# Altium footprint library 常用元件封装.PCBLIB: 164 footprints (part 4 of 11)
Each footprint in its own frame and in the unit in brackets; x right, y up, seen from the top. Pads: shape width x height; smd on the part's side, far side on the other; paste and mask are expansions set on the pad; w line width, h text height; cw(c..) or ccw(c..) is an arc to the next point about the centre after c.
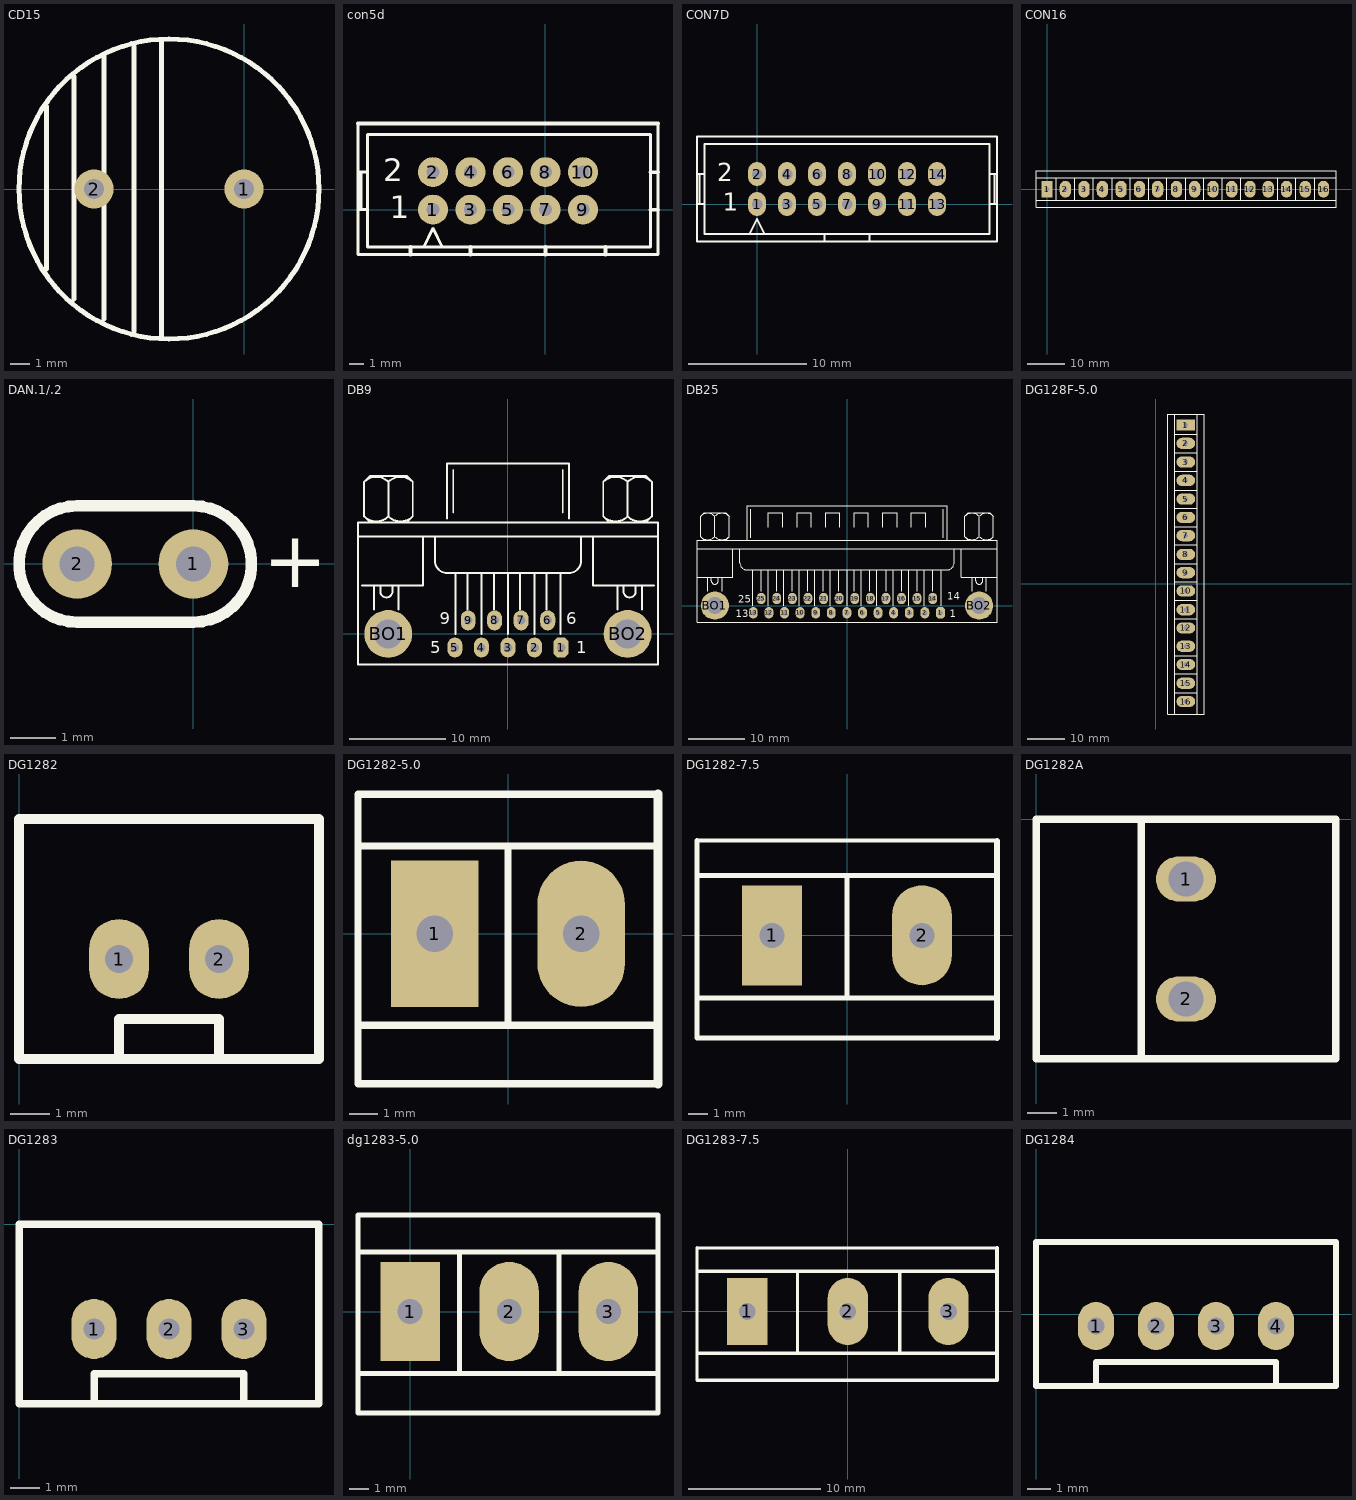
[diagram p3: the footprints below, top view; thin cyan lines are the x and y axes]

## CD15 [mm]
pads (2):
  round 2 hole 1: 1(0,0) 2(-7.62,0)
TopOverlay:
  circle w0.254: c-3.81,0 r7.62
  lines w0.254: -10.033,-4.064 -10.033,4.191 ; -8.636,-5.588 -8.636,5.715 ; -7.112,-6.604 -7.112,6.731 ; -5.588,-7.239 -5.588,7.239 ; -4.191,-7.493 -4.191,7.493

## con5d [mil]
pads (10):
  round 80 hole 35: 1(-300,0) 2(-300,100) 3(-200,0) 4(-200,100) 5(-100,0) 6(-100,100) 7(0,0) 8(0,100) 9(100,0) 10(100,100)
TopOverlay:
  lines w8: -500,0 -475,0 ; -500,100 -475,100 ; -500,230 -500,-120 300,-120 300,230 ; -491.67,0 -491.67,100 ; -325,-100 -300,-50 -275,-100 ; -475,-100 -475,200 280,200 280,-100 75,-100 -75,-100 -475,-100
  lines w10: -500,230 300,230 ; -360,-120 -360,-100 ; -200,-120 -200,-100 ; 0,-120 0,-100 ; 160,-120 160,-100 ; 280,0 300,0 ; 280,100 300,100
  text "1" at -415,-23 h60
  text "2" at -432,76 h60

## CON7D [mil]
pads (14):
  oval 60x80 hole 35: 1(0,0) 2(0,100) 3(100,0) 4(100,100) 5(200,0) 6(200,100) 7(300,0) 8(300,100) 9(400,0) 10(400,100) 11(500,0) 12(500,100) 13(600,0) 14(600,100)
TopOverlay:
  lines w8: -200,0 -175,0 ; -200,100 -175,100 ; -191.67,0 -191.67,100 ; -25,-100 0,-50 25,-100 ; 225,-125 225,-100 ; 375,-125 375,-100 ; 775,0 800,0 ; 775,100 800,100 ; 791.67,0 791.67,100 ; 225,-100 375,-100 ; 225,-100 -175,-100 -175,200 775,200 775,-100 375,-100 ; -200,-125 800,-125 800,225 -200,225 -200,-125
  text "2" at -132,76 h60
  text "1" at -115,-23 h60

## CON16 [mil]
pads (16):
  rect 120x180 hole 50: 1(0,0)
  oval 120x180 hole 50: 2(195,0) 3(395,0) 4(590,0) 5(790,0) 6(985,0) 7(1180,0) 8(1380,0) 9(1575,0) 10(1770,0) 11(1970,0) 12(2165,0) 13(2360,0) 14(2555,0) 15(2755,0) 16(2950,0)
TopOverlay:
  lines w12: -118,-116 3083,-116 ; -118,120 3083,120 ; 99,-117 99,118 ; 294,-112 294,118 ; 494,-112 494,118 ; 694,-112 694,118 ; 889,-112 889,118 ; 1084,-112 1084,118 ; 1279,-112 1279,118 ; 1479,-112 1479,118 ; 1674,-112 1674,118 ; 1869,-112 1869,118 ; 2069,-112 2069,118 ; 2459,-112 2459,118 ; 2654,-112 2654,118 ; 2854,-112 2854,118 ; -118,-195 -118,199 3083,199 3083,-195 -118,-195

## DAN.1/.2 [mil]
pads (2):
  round 60 hole 30: 1(0,0) 2(-100,0)
TopOverlay:
  lines w10: -100,-50 cw(c-100,0) -100,50 0,50 cw(c0,0) 0,-50 -100,-50
  text "+" at 60,-20 h48

## DB9 [mil]
pads (11):
  oct 62x82 hole 35: 1(218.75,-55.83)
  oval 62x82 hole 35: 2(109.58,-55.83) 3(0.42,-55.83) 4(-108.75,-55.83) 5(-217.92,-55.83) 6(163.75,55.83) 7(54.58,55.83) 8(-54.58,55.83)
  oval 60x82 hole 35: 9(-163.75,55.83)
  round 196.67 hole 118.33: BO1(-492.08,0) BO2(492.08,0)
TopOverlay:
  lines w8: -616.25,400 617.08,400 ; -599.58,200 -349.58,200 -349.58,400 ; -591.34,483.25 ccw(c-541.25,533.33) -491.16,483.25 ; -591.34,625.09 cw(c-541.25,575) -491.16,625.09 ; -566.25,458.33 -591.25,483.33 -591.25,625 -566.25,650 -416.25,650 -391.25,625 -391.25,483.33 -416.25,458.33 ; -549.58,100 -549.58,200 ; -524.58,200 -524.58,175 ccw(c-499.58,175) -474.58,175 -474.58,200 ; -491.34,483.25 ccw(c-441.25,533.33) -391.16,483.25 ; -491.34,625.09 cw(c-441.25,575) -391.16,625.09 ; -491.25,483.33 -491.25,625 ; -449.58,100 -449.58,200 ; -299.58,400 -299.58,300 ccw(c-249.58,300) -249.58,250 250.42,250 ccw(c250.42,300) 300.42,300 300.42,400 ; -249.58,475 -249.58,700 250.42,700 250.42,475 ; -224.58,500 -224.58,675 ; -216.25,0 -216.25,250 ; -166.25,100 -166.25,250 ; -107.92,0 -107.92,250 ; -57.92,100 -57.92,250 ; 0.42,0 0.42,250 ; 50.42,100 50.42,250 ; 108.75,0 108.75,250 ; 158.75,100 158.75,250 ; 217.08,0 217.08,250 ; 225.42,500 225.42,675 ; 350.42,400 350.42,200 600.42,200 ; 392,483.25 ccw(c442.08,533.33) 492.17,483.25 ; 392,625.09 cw(c442.08,575) 492.17,625.09 ; 417.08,458.33 392.08,483.33 392.08,625 417.08,650 567.08,650 592.08,625 592.08,483.33 567.08,458.33 ; 450.42,100 450.42,200 ; 475.42,200 475.42,175 ccw(c500.42,175) 525.42,175 525.42,200 ; 492,483.25 ccw(c542.08,533.33) 592.17,483.25 ; 492,625.09 cw(c542.08,575) 592.17,625.09 ; 492.08,483.33 492.08,625 ; 550.42,100 550.42,200 ; -616.25,-125 -616.25,458.33 617.08,458.33 617.08,-125 -616.25,-125
  text "9" at -279.58,40 h50
  text "5" at -319.58,-80 h50
  text "1" at 280.42,-80 h50
  text "6" at 240.42,40 h50

## DB25 [mil]
pads (27):
  oct 62x80 hole 35: 1(654.17,-50)
  oval 62x80 hole 35: 2(545,-50) 3(435.83,-50) 4(326.67,-50) 5(217.5,-50) 6(108.33,-50) 7(-0.83,-50) 8(-110,-50) 9(-219.17,-50) 10(-328.33,-50) 11(-437.5,-50) 12(-546.67,-50) 13(-655.83,-50) 14(600,50) 15(490.83,50) 16(381.67,50) 17(272.5,50) 18(163.33,50) 19(54.17,50) 20(-55,50) 21(-164.17,50) 22(-273.33,50) 23(-382.5,50) 24(-491.67,50) 25(-600.83,50)
  round 196.67 hole 118.33: BO1(-925,0) BO2(925,0)
TopOverlay:
  lines w8: -1050,200 -800,200 -800,400 ; -1050,400 1050,400 ; -1025.09,483.25 ccw(c-975,533.33) -924.91,483.25 ; -1025.09,625.09 cw(c-975,575) -924.91,625.09 ; -1000,458.33 -1025,483.33 -1025,625 -1000,650 -850,650 -825,625 -825,483.33 -850,458.33 ; -975,100 -975,200 ; -950,200 -950,175 ccw(c-925,175) -900,175 -900,200 ; -925.09,483.25 ccw(c-875,533.33) -824.91,483.25 ; -925.09,625.09 cw(c-875,575) -824.91,625.09 ; -925,483.33 -925,625 ; -875,100 -875,200 ; -750,400 -750,300 ccw(c-700,300) -700,250 700,250 ccw(c700,300) 750,300 750,400 ; -700,458.33 -700,700 700,700 700,458.33 ; -675,475 -675,675 ; -658.33,0 -658.33,250 ; -600,100 -600,250 ; -550,0 -550,250 ; -550,550 -550,650 -450,650 -450,550 ; -491.67,100 -491.67,250 ; -441.67,0 -441.67,250 ; -383.33,100 -383.33,250 ; -350,550 -350,650 -250,650 -250,550 ; -333.33,0 -333.33,250 ; -275,100 -275,250 ; -225,0 -225,250 ; -166.67,100 -166.67,250 ; -150,550 -150,650 -50,650 -50,550 ; -116.67,0 -116.67,250 ; -58.33,100 -58.33,250 ; 0,0 0,250 ; 50,100 50,250 ; 50,550 50,650 150,650 150,550 ; 100,0 100,250 ; 158.33,100 158.33,250 ; 208.33,0 208.33,250 ; 250,550 250,650 350,650 350,550 ; 275,100 275,250 ; 325,0 325,250 ; 383.33,100 383.33,250 ; 433.33,0 433.33,250 ; 450,550 450,650 550,650 550,550 ; 491.67,100 491.67,250 ; 541.67,0 541.67,250 ; 600,100 600,250 ; 658.33,0 658.33,250 ; 675,475 675,675 ; 800,400 800,200 1050,200 ; 824.91,483.25 ccw(c875,533.33) 925.09,483.25 ; 824.91,625.09 cw(c875,575) 925.09,625.09 ; 850,458.33 825,483.33 825,625 850,650 1000,650 1025,625 1025,483.33 1000,458.33 ; 875,100 875,200 ; 900,200 900,175 ccw(c925,175) 950,175 950,200 ; 924.91,483.25 ccw(c975,533.33) 1025.09,483.25 ; 924.91,625.09 cw(c975,575) 1025.09,625.09 ; 925,483.33 925,625 ; 975,100 975,200 ; -1050,-116.67 1050,-116.67 1050,458.33 -1050,458.33 -1050,-116.67
  text "25" at -760,20 h50
  text "13" at -780,-80 h50
  text "1" at 720,-80 h50
  text "14" at 700,40 h50

## DG128F-5.0 [mil]
pads (16):
  rect 200x120 hole 50: 1(320,1693)
  oval 200x120 hole 50: 2(320,1498) 3(320,1298) 4(320,1103) 5(320,903) 6(320,708) 7(320,513) 8(320,313) 9(320,118) 10(320,-77) 11(320,-277) 12(320,-472) 13(320,-667) 14(320,-862) 15(320,-1062) 16(320,-1257)
TopOverlay:
  lines w12: 203,1594 438,1594 ; 204,-1390 204,1811 ; 208,-1161 438,-1161 ; 208,-961 438,-961 ; 208,-766 438,-766 ; 208,-376 438,-376 ; 208,-176 438,-176 ; 208,19 438,19 ; 208,214 438,214 ; 208,414 438,414 ; 208,609 438,609 ; 208,804 438,804 ; 208,999 438,999 ; 208,1199 438,1199 ; 208,1399 438,1399 ; 440,-1390 440,1811 ; 125,-1390 125,1811 519,1811 519,-1390 125,-1390

## DG1282 [mil]
pads (2):
  oval 60x80 hole 27.56: 1(100,360) 2(200,360)
TopOverlay:
  lines w10: 100,260 100,300 200,300 200,280 200,260 ; 0,260 0,380 0,500 300,500 300,260 0,260

## DG1282-5.0 [mil]
pads (2):
  rect 120x200 hole 50: 1(-100,0)
  oval 120x200 hole 50: 2(100,0)
TopOverlay:
  lines w10: -205,-203 -205,-205 205,-205 ; -205,-200 -205,191 205,191 ; -205,-125 205,-125 ; -205,120 205,120 ; 0,-124 0,120
  lines w12: 205,-205 205,191

## DG1282-7.5 [mil]
pads (2):
  rect 120x200 hole 50: 1(-150,0)
  oval 120x200 hole 50: 2(150,0)
TopOverlay:
  lines w10: -300,-125 300,-125 ; -300,120 300,120 ; -300,186 -300,-205 300,-205 ; -300,190 300,189 ; 0,-124 0,120
  lines w12: 300,-205 300,189

## DG1282A [mil]
pads (2):
  oval 80x60 hole 47.24: 1(200,-80) 2(200,-240)
TopOverlay:
  lines w10: 140,-320 140,0 ; 0,-320 0,-20 0,0 240,0 260,0 280,0 360,0 400,0 400,-320 360,-320 280,-320 260,-320 240,-320 0,-320

## DG1283 [mil]
pads (3):
  oval 60x80 hole 27.56: 1(100,-140) 2(200,-140) 3(300,-140)
TopOverlay:
  lines w10: 100,-240 100,-200 300,-200 300,-240 ; 0,-240 400,-240 400,0 0,0 0,-120 0,-240

## dg1283-5.0 [mil]
pads (3):
  rect 120x200 hole 50: 1(0,0)
  oval 120x200 hole 50: 2(200,0) 3(400,0)
TopOverlay:
  lines w10: -105,-203 -105,-205 500,-205 500,195 -105,195 ; -105,-200 -105,191 ; -105,-125 500,-125 ; -105,120 500,120 ; 100,-124 100,120 ; 300,-125 300,120

## DG1283-7.5 [mil]
pads (3):
  rect 120x200 hole 50: 1(-300,0)
  oval 120x200 hole 50: 2(0,0) 3(300,0)
TopOverlay:
  lines w10: -450,-125 445,-125 ; -450,120 445,120 ; -450,186 -450,-205 445,-205 ; -450,190 445,189 ; -150,-124 -150,120 ; 155,-125 155,120
  lines w12: 445,-205 445,189

## DG1284 [mil]
pads (4):
  oval 60x80 hole 27.56: 1(100,-20) 2(200,-20) 3(300,-20) 4(400,-20)
TopOverlay:
  lines w10: 100,-120 100,-80 400,-80 400,-120 ; 0,-120 0,0 0,120 500,120 500,-120 480,-120 0,-120